# Altium footprint library reset_button.PcbLib: 2 footprints
Each footprint in its own frame and in the unit in brackets; x right, y up, seen from the top. Pads: shape width x height; smd on the part's side, far side on the other; paste and mask are expansions set on the pad; w line width, h text height; cw(c..) or ccw(c..) is an arc to the next point about the centre after c.
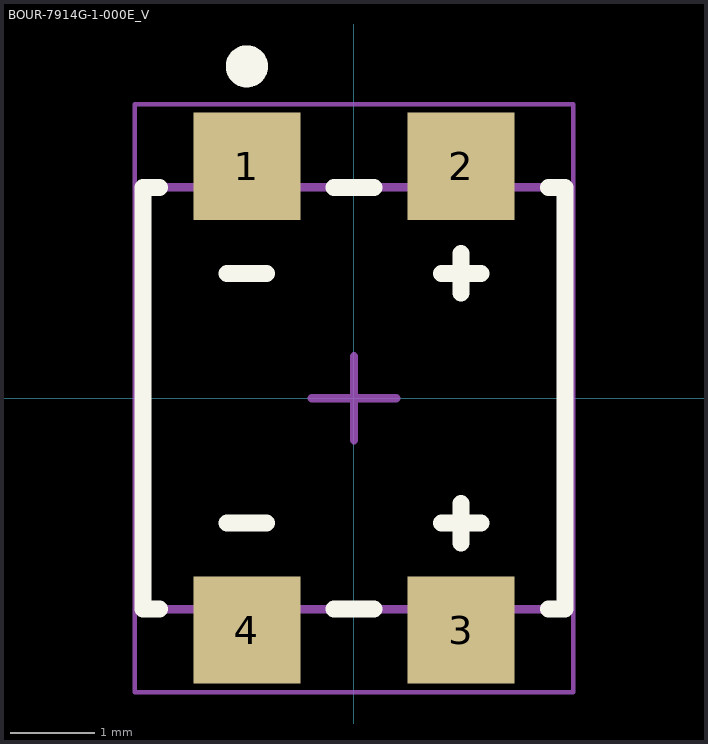
[diagram p0: the footprints below, top view; thin cyan lines are the x and y axes]

## BOUR-7914G-1-000E_V [mm] "SMD, 4-Leads, Body 5x5mm, Height 4.49mm"
height 4.49
pads (4):
  rect 1.27x1.27 smd: 1(-1.27,2.75) 2(1.27,2.75) 3(1.27,-2.75) 4(-1.27,-2.75)
Top Overlay:
  circle w0.25: c-1.27,3.935 r0.125
  lines w0.2: -2.305,-2.5 -2.5,-2.5 -2.5,2.5 -2.305,2.5 ; -1.505,-1.48 -1.035,-1.48 ; -1.505,1.48 -1.035,1.48 ; -0.235,-2.5 0.235,-2.5 ; -0.235,2.5 0.235,2.5 ; 1.035,-1.48 1.505,-1.48 ; 1.035,1.48 1.505,1.48 ; 1.27,-1.715 1.27,-1.245 ; 1.27,1.245 1.27,1.715 ; 2.305,-2.5 2.5,-2.5 2.5,2.5 2.305,2.5
Mechanical 13:
  lines w0.1: -2.5,-2.5 -2.5,2.5 2.5,2.5 2.5,-2.5 -2.5,-2.5
Mechanical 15:
  lines w0.05: -2.6,-3.485 2.6,-3.485 2.6,3.485 -2.6,3.485 -2.6,-3.485
  lines w0.1: -0.5,0 0.5,0 ; 0,-0.5 0,0.5
3D body "7914G-1-000.stp": height 4.11, standoff 0, extent -2.502,-3.098 2.502,3.099

## PCBComponent_1 [mil]